# EAGLE library part TLC083DGQ (library op-amp)
BiMOS OP-AMP - PowerPAD Package Single Supply
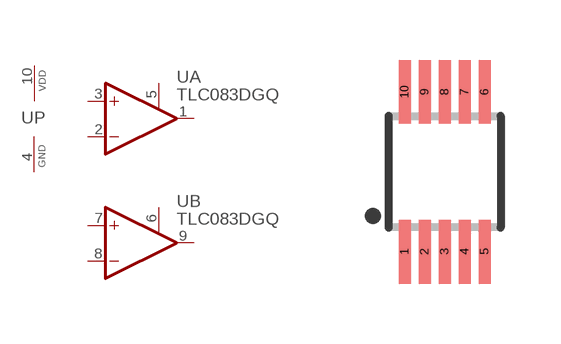
[diagram p11: symbol with the pads of MSOP10-PP; footprint MSOP10-PP]

Designator prefix U; gates A=OPAMP_SHDN B=OPAMP_SHDN P=PWRN_VDDGND

## TLC083DGQ  [MSOP10-PP]
1  A:OUT  out
2  A:-IN  in
3  A:+IN  in
4  P:GND  pwr
5  A:SHDN  pas
6  B:SHDN  pas
7  B:+IN  in
8  B:-IN  in
9  B:OUT  out
10  P:VDD  pwr

## Footprint MSOP10-PP (pad centres in mm)
MSOP-PowerPAD 10 DGQ Package, Texas Instruments
smd 0.3 x 1.6: 1 -1,-2; 2 -0.5,-2; 3 0,-2; 4 0.5,-2; 5 1,-2; 6 1,2; 7 0.5,2; 8 0,2; 9 -0.5,2; 10 -1,2